# Altium footprint library EEG_PcbLib.PcbLib: 77 footprints (part 2 of 5)
Each footprint in its own frame and in the unit in brackets; x right, y up, seen from the top. Pads: shape width x height; smd on the part's side, far side on the other; paste and mask are expansions set on the pad; w line width, h text height; cw(c..) or ccw(c..) is an arc to the next point about the centre after c.
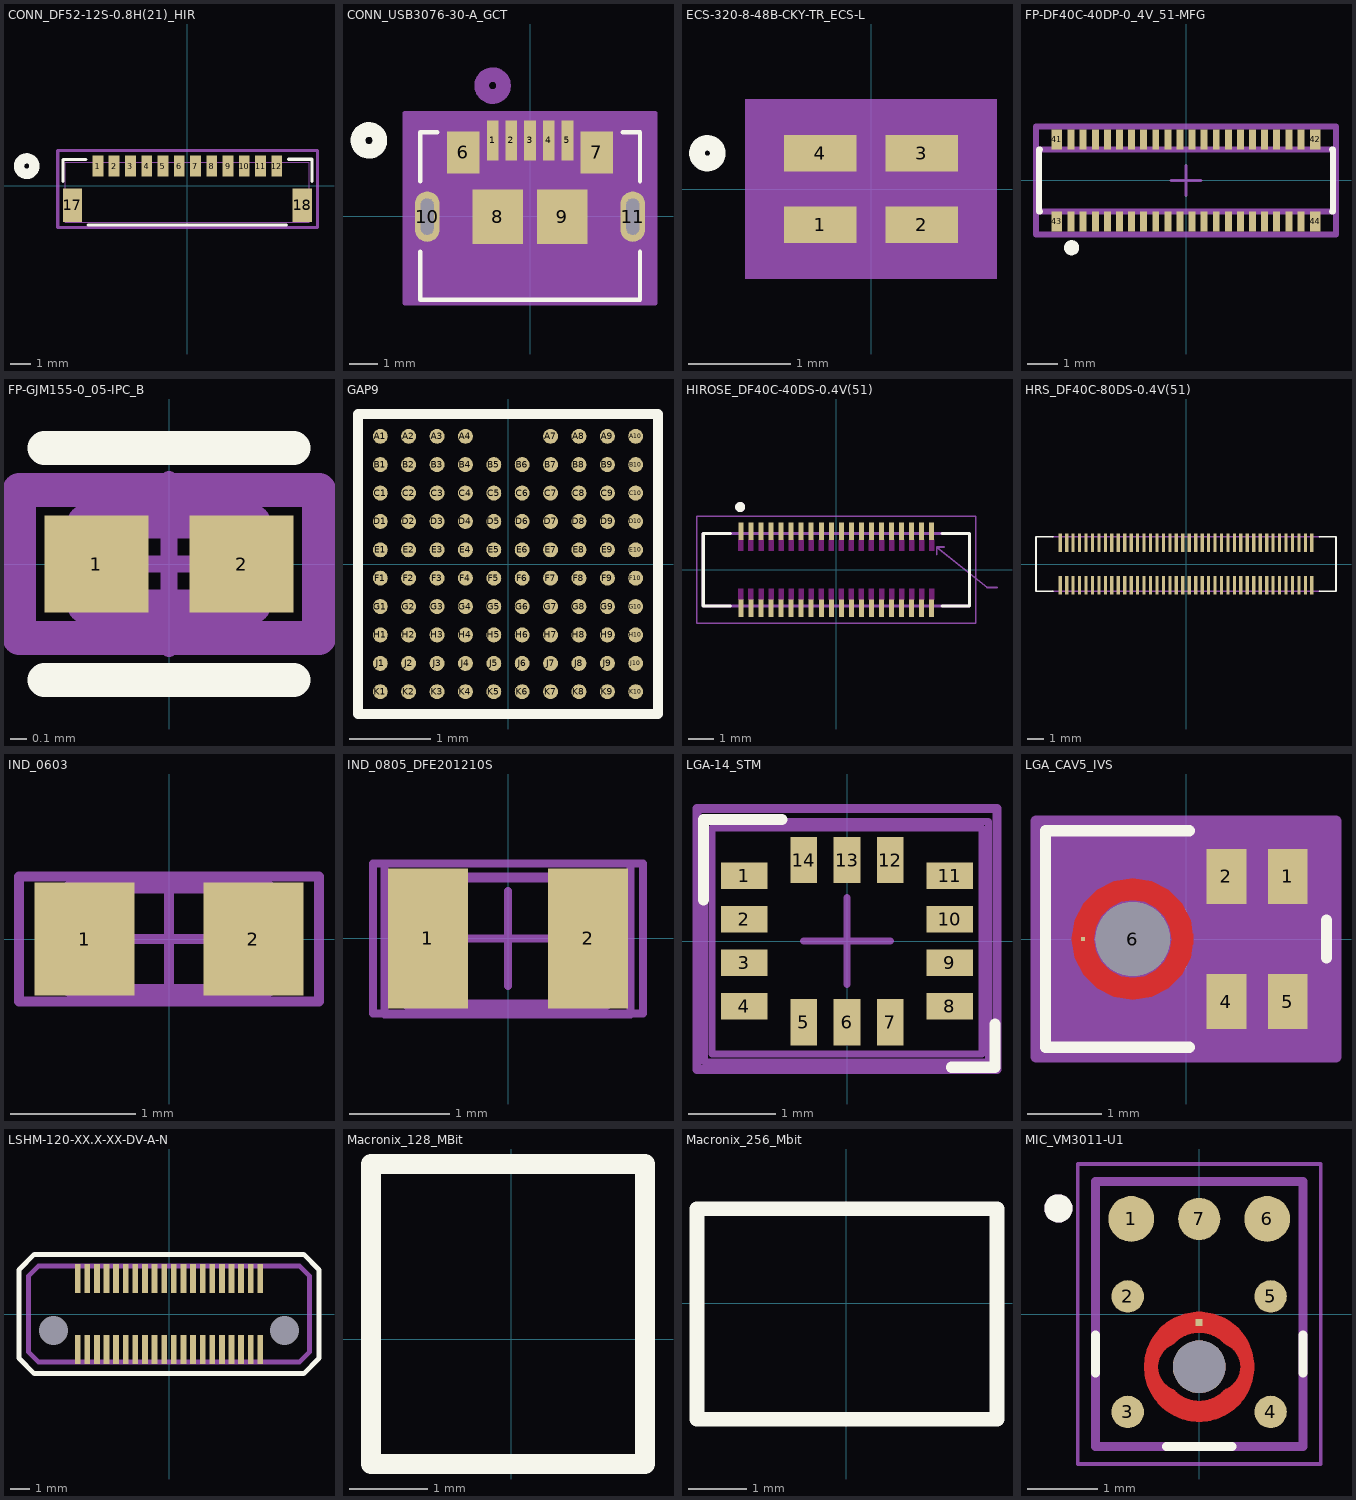
[diagram p1: the footprints below, top view; thin cyan lines are the x and y axes]

## CONN_DF52-12S-0.8H(21)_HIR [mm]
pads (14):
  rect 0.533x1.041 smd paste+0 mask+0: 1(-4.4,0.96) 2(-3.6,0.96) 3(-2.8,0.96) 4(-2,0.96) 5(-1.2,0.96) 6(-0.4,0.96) 7(0.4,0.96) 8(1.2,0.96) 9(2,0.96) 10(2.8,0.96) 11(3.6,0.96) 12(4.4,0.96)
  rect 0.94x1.651 smd: 17(-5.65,-0.96) 18(5.65,-0.96)
Top Overlay:
  circle w0.508: c-7.9,0.96 r0.381
  lines w0.152: -6.122,0.198 -6.122,1.287 -4.999,1.287 ; -4.885,-1.939 4.885,-1.939 ; 4.978,1.3 6.122,1.3 6.122,0.198
Bottom Overlay:
  circle w0.508: c-7.9,0.96 r0.381
Mechanical 13:
  lines w0.025: -5.995,-1.812 6,-1.812 6,1.16 -5.995,1.16 -5.995,-1.812
Mechanical 15:
  lines w0.152: -6.374,-2.066 -6.374,1.735 6.4,1.735 6.4,-2.066 -6.374,-2.066
3D body "DF52-12S-0.8H-21---3DModel-STEP-1.STEP": height 1.76, standoff 0.01, extent -5.9,-1.7 5.9,1.07

## CONN_USB3076-30-A_GCT [mm]
pads (11):
  rect 0.406x1.397 smd paste+0 mask+0: 1(-1.3,2.631) 2(-0.65,2.631) 3(0,2.631) 4(0.65,2.631) 5(1.3,2.631)
  rect 1.143x1.448 smd paste-0.724 mask-0.724: 6(-2.32,2.211) 7(2.32,2.211)
  rect 1.75x1.9 smd paste-0.95 mask-0.953: 8(-1.125,-0.019) 9(1.125,-0.019)
  oval 0.85x1.75 hole 0.45 slot 1.25 at 90 deg mask+0.102: 10(-3.575,-0.019) 11(3.575,-0.019)
Top Overlay:
  circle w0.508: c-5.601,2.631 r0.381
  lines w0.152: -3.823,-1.242 -3.823,-2.908 3.823,-2.908 3.823,-1.242 ; -3.823,1.204 -3.823,2.908 -3.224,2.908 ; 3.224,2.908 3.823,2.908 3.823,1.204
Bottom Overlay:
  circle w0.508: c-5.601,2.631 r0.381
Mechanical 13:
  circle w0.508: c-1.3,4.536 r0.381
  lines w0.025: -3.696,-2.781 3.696,-2.781 3.696,2.781 -3.696,2.781 -3.696,-2.781
Mechanical 15:
  region: 4.35,3.584 -4.35,3.584 -4.35,-3.035 4.35,-3.035
  lines w0.152: -4.35,-3.035 -4.35,3.584 4.35,3.584 4.35,-3.035 -4.35,-3.035
3D body "USB3076-30-A--3DModel-STEP-56544.STEP": height 2.67, standoff -0.99, extent -3.7,-2.775 3.7,2.775

## ECS-320-8-48B-CKY-TR_ECS-L [mm]
pads (4):
  rect 0.708x0.356 smd paste+0 mask+0: 1(-0.496,-0.35) 2(0.496,-0.35) 3(0.496,0.35) 4(-0.496,0.35)
Top Overlay:
  circle w0.152: c-1.601,0.35 r0.102
Mechanical 5:
  region: 1.231,-0.876 -1.231,-0.876 -1.231,0.876 1.231,0.876
Mechanical 13:
  circle w0: c-0.142,0.35 r0.076
  lines w0: -0.305,0.495 ccw(c0,0.495) 0.305,0.495
  lines w0.025: -0.597,-0.495 -0.597,0.495 0.597,0.495 0.597,-0.495 -0.597,-0.495
Mechanical 15:
  region: -0.699,-0.63 -0.952,-0.63 -0.952,0.63 -0.699,0.63 -0.699,0.597 0.699,0.597 0.699,0.63 0.952,0.63 0.952,-0.63 0.699,-0.63 0.699,-0.597 -0.699,-0.597
  lines w0.152: -0.952,-0.63 -0.699,-0.63 -0.699,-0.597 0.699,-0.597 0.699,-0.63 0.952,-0.63 0.952,0.63 0.699,0.63 0.699,0.597 -0.699,0.597 -0.699,0.63 -0.952,0.63 -0.952,-0.63
3D body "ECS-320-8-48B-CKY-TR_ECS.step": height 0.31, standoff 0, extent -0.65,-0.553 0.65,0.553

## FP-DF40C-40DP-0_4V_51-MFG [mm]
pads (44):
  rect 0.23x0.66 smd paste-1000 mask+0: 1(-3.8,-1.355) 2(-3.8,1.355) 3(-3.4,-1.355) 4(-3.4,1.355) 5(-3,-1.355) 6(-3,1.355) 7(-2.6,-1.355) 8(-2.6,1.355) 9(-2.2,-1.355) 10(-2.2,1.355) 11(-1.8,-1.355) 12(-1.8,1.355) 13(-1.4,-1.355) 14(-1.4,1.355) 15(-1,-1.355) 16(-1,1.355) 17(-0.6,-1.355) 18(-0.6,1.355) 19(-0.2,-1.355) 20(-0.2,1.355) 21(0.2,-1.355) 22(0.2,1.355) 23(0.6,-1.355) 24(0.6,1.355) 25(1,-1.355) 26(1,1.355) 27(1.4,-1.355) 28(1.4,1.355) 29(1.8,-1.355) 30(1.8,1.355) 31(2.2,-1.355) 32(2.2,1.355) 33(2.6,-1.355) 34(2.6,1.355) 35(3,-1.355) 36(3,1.355) 37(3.4,-1.355) 38(3.4,1.355) 39(3.8,-1.355) 40(3.8,1.355)
  rect 0.35x0.66 smd paste+0 mask+0: 41(-4.275,1.355) 42(4.275,1.355) 43(-4.275,-1.355) 44(4.275,-1.355)
Top Overlay:
  circle w0.25: c-3.785,-2.225 r0.125
  lines w0.2: -4.825,-1.025 -4.86,-1.025 -4.86,1.025 -4.825,1.025 ; 4.825,-1.025 4.86,-1.025 4.86,1.025 4.825,1.025
Top Paste:
  rectangle: 3.708,-1.685 3.892,-1.025
  rectangle: 3.308,-1.685 3.492,-1.025
  rectangle: 2.908,-1.685 3.092,-1.025
  rectangle: 2.508,-1.685 2.692,-1.025
  rectangle: 2.108,-1.685 2.292,-1.025
  rectangle: 1.708,-1.685 1.892,-1.025
  rectangle: 1.308,-1.685 1.492,-1.025
  rectangle: 0.908,-1.685 1.092,-1.025
  rectangle: 0.508,-1.685 0.692,-1.025
  rectangle: 0.108,-1.685 0.292,-1.025
  rectangle: -0.292,-1.685 -0.108,-1.025
  rectangle: -0.692,-1.685 -0.508,-1.025
  rectangle: -1.092,-1.685 -0.908,-1.025
  rectangle: -1.492,-1.685 -1.308,-1.025
  rectangle: -1.892,-1.685 -1.708,-1.025
  rectangle: -2.292,-1.685 -2.108,-1.025
  rectangle: -2.692,-1.685 -2.508,-1.025
  rectangle: -3.092,-1.685 -2.908,-1.025
  rectangle: -3.492,-1.685 -3.308,-1.025
  rectangle: -3.892,-1.685 -3.708,-1.025
  rectangle: 3.708,1.025 3.892,1.685
  rectangle: 3.308,1.025 3.492,1.685
  rectangle: 2.908,1.025 3.092,1.685
  rectangle: 2.508,1.025 2.692,1.685
  rectangle: 2.108,1.025 2.292,1.685
  rectangle: 1.708,1.025 1.892,1.685
  rectangle: 1.308,1.025 1.492,1.685
  rectangle: 0.908,1.025 1.092,1.685
  rectangle: 0.508,1.025 0.692,1.685
  rectangle: 0.108,1.025 0.292,1.685
  rectangle: -0.292,1.025 -0.108,1.685
  rectangle: -0.692,1.025 -0.508,1.685
  rectangle: -1.092,1.025 -0.908,1.685
  rectangle: -1.492,1.025 -1.308,1.685
  rectangle: -1.892,1.025 -1.708,1.685
  rectangle: -2.292,1.025 -2.108,1.685
  rectangle: -2.692,1.025 -2.508,1.685
  rectangle: -3.092,1.025 -2.908,1.685
  rectangle: -3.492,1.025 -3.308,1.685
  rectangle: -3.892,1.025 -3.708,1.685
Top 3D Body:
  lines w0.2: -4.86,-1.025 -4.86,1.025 4.86,1.025 4.86,-1.025 -4.86,-1.025
Top Assembly:
  lines w0.2: -4.96,-1.785 -4.96,1.785 4.96,1.785 4.96,-1.785 -4.96,-1.785
  text ".Designator" at 0,0.187 h1
Top Courtyard:
  lines w0.2: -4.96,-1.785 -4.96,1.785 4.96,1.785 4.96,-1.785 -4.96,-1.785
Top Component Center:
  lines w0.1: -0.5,0 0.5,0 ; 0,-0.5 0,0.5
3D body "Conn_Hirose_DF40C-40DP-0_4V_51_eec.STEP": height 0.25, standoff 0, extent -4.96,-1.785 4.96,1.785

## FP-GJM155-0_05-IPC_B [mm]
pads (2):
  rect 0.615x0.572 smd paste+0 mask+0: 1(-0.429,0) 2(0.429,0)
Top Overlay:
  lines w0.2: -0.736,-0.686 0.736,-0.686 ; -0.736,0.686 0.736,0.686
Top 3D Body:
  lines w0.2: -0.5,-0.25 0.5,-0.25 0.5,0.25 -0.5,0.25 -0.5,-0.25
Top Assembly:
  lines w0.2: -0.886,-0.436 0.886,-0.436 0.886,0.436 -0.886,0.436 -0.886,-0.436
  text ".Designator" at 0,0.187 h1
Top Courtyard:
  lines w0.2: -0.886,-0.436 0.886,-0.436 0.886,0.436 -0.886,0.436 -0.886,-0.436
Top Component Center:
  lines w0.1: -0.5,0 0.5,0 ; 0,-0.5 0,0.5
3D body "Cap_Murata_GJM1551C1H7R0DB01D_eec.STEP": height 0.25, standoff 0, extent -0.886,-0.436 0.886,0.436

## GAP9 [mm]
pads (98):
  round 0.185 smd paste-0.005 mask+0: A1(-1.575,1.575) A2(-1.225,1.575) A3(-0.875,1.575) A4(-0.525,1.575) A7(0.525,1.575) A8(0.875,1.575) A9(1.225,1.575) A10(1.575,1.575) B1(-1.575,1.225) B2(-1.225,1.225) B3(-0.875,1.225) B4(-0.525,1.225) B5(-0.175,1.225) B6(0.175,1.225) B7(0.525,1.225) B8(0.875,1.225) B9(1.225,1.225) B10(1.575,1.225) C1(-1.575,0.875) C2(-1.225,0.875) C3(-0.875,0.875) C4(-0.525,0.875) C5(-0.175,0.875) C6(0.175,0.875) C7(0.525,0.875) C8(0.875,0.875) C9(1.225,0.875) C10(1.575,0.875) D1(-1.575,0.525) D2(-1.225,0.525) D3(-0.875,0.525) D4(-0.525,0.525) D5(-0.175,0.525) D6(0.175,0.525) D7(0.525,0.525) D8(0.875,0.525) D9(1.225,0.525) D10(1.575,0.525) E1(-1.575,0.175) E2(-1.225,0.175) E3(-0.875,0.175) E4(-0.525,0.175) E5(-0.175,0.175) E6(0.175,0.175) E7(0.525,0.175) E8(0.875,0.175) E9(1.225,0.175) E10(1.575,0.175) F1(-1.575,-0.175) F2(-1.225,-0.175) F3(-0.875,-0.175) F4(-0.525,-0.175) F5(-0.175,-0.175) F6(0.175,-0.175) F7(0.525,-0.175) F8(0.875,-0.175) F9(1.225,-0.175) F10(1.575,-0.175) G1(-1.575,-0.525) G2(-1.225,-0.525) G3(-0.875,-0.525) G4(-0.525,-0.525) G5(-0.175,-0.525) G6(0.175,-0.525) G7(0.525,-0.525) G8(0.875,-0.525) G9(1.225,-0.525) G10(1.575,-0.525) H1(-1.575,-0.875) H2(-1.225,-0.875) H3(-0.875,-0.875) H4(-0.525,-0.875) H5(-0.175,-0.875) H6(0.175,-0.875) H7(0.525,-0.875) H8(0.875,-0.875) H9(1.225,-0.875) H10(1.575,-0.875) J1(-1.575,-1.225) J2(-1.225,-1.225) J3(-0.875,-1.225) J4(-0.525,-1.225) J5(-0.175,-1.225) J6(0.175,-1.225) J7(0.525,-1.225) J8(0.875,-1.225) J9(1.225,-1.225) J10(1.575,-1.225) K1(-1.575,-1.575) K2(-1.225,-1.575) K3(-0.875,-1.575) K4(-0.525,-1.575) K5(-0.175,-1.575) K6(0.175,-1.575) K7(0.525,-1.575) K8(0.875,-1.575) K9(1.225,-1.575) K10(1.575,-1.575)
Top Overlay:
  lines w0.127: -1.85,-1.85 -1.85,1.85 1.85,1.85 1.85,-1.85 -1.85,-1.85
3D body: height 0.52, standoff 0, extent -1.85,-1.85 1.85,1.85

## HIROSE_DF40C-40DS-0.4V(51) [mm]
pads (40):
  rect 0.2x0.7 smd paste-1: 1(-3.8,1.54) 2(-3.8,-1.54) 3(-3.4,1.54) 4(-3.4,-1.54) 5(-3,1.54) 6(-3,-1.54) 7(-2.6,1.54) 8(-2.6,-1.54) 9(-2.2,1.54) 10(-2.2,-1.54) 11(-1.8,1.54) 12(-1.8,-1.54) 13(-1.4,1.54) 14(-1.4,-1.54) 15(-1,1.54) 16(-1,-1.54) 17(-0.6,1.54) 18(-0.6,-1.54) 19(-0.2,1.54) 20(-0.2,-1.54) 21(0.2,1.54) 22(0.2,-1.54) 23(0.6,1.54) 24(0.6,-1.54) 25(1,1.54) 26(1,-1.54) 27(1.4,1.54) 28(1.4,-1.54) 29(1.8,1.54) 30(1.8,-1.54) 31(2.2,1.54) 32(2.2,-1.54) 33(2.6,1.54) 34(2.6,-1.54) 35(3,1.54) 36(3,-1.54) 37(3.4,1.54) 38(3.4,-1.54) 39(3.8,1.54) 40(3.8,-1.54)
Top Overlay:
  circle w0.2: c-3.83,2.5 r0.1
  lines w0.127: -4.22,-1.44 -5.3,-1.44 -5.3,1.44 -4.22,1.44 ; 4.22,-1.44 5.3,-1.44 5.3,1.44 4.22,1.44
Top Paste:
  drawing of 40 lines, arcs and shapes, not listed
Keep-Out Layer:
  drawing of 44 lines, arcs and shapes, not listed
Mechanical 13:
  circle w0.2: c-3.83,2.5 r0.1
  lines w0.076: 4,0.6 4,0.9 ; 4.3,0.9 4,0.9 ; 6.4,-0.7 6,-0.7 4,0.9
  lines w0.127: -5.3,-1.44 5.3,-1.44 5.3,1.44 -5.3,1.44 -5.3,-1.44
  text "other than same circuit" at 6.66,-1.953 h0.41
  text "No Pattern area" at 6.66,-1.14 h0.41
Mechanical 15:
  lines w0.05: -5.55,-2.14 -5.55,2.14 5.55,2.14 5.55,-2.14 -5.55,-2.14
3D body "df40c-40ds-0_4v_51_.stp": height 1.46, standoff 0.01, extent -5.415,-1.69 5.185,1.69

## HRS_DF40C-80DS-0.4V(51) [mm]
pads (80):
  rect 0.2x1.14 smd: 1(-7.8,-1.32) 2(-7.8,1.32) 3(-7.4,-1.32) 4(-7.4,1.32) 5(-7,-1.32) 6(-7,1.32) 7(-6.6,-1.32) 8(-6.6,1.32) 9(-6.2,-1.32) 10(-6.2,1.32) 11(-5.8,-1.32) 12(-5.8,1.32) 13(-5.4,-1.32) 14(-5.4,1.32) 15(-5,-1.32) 16(-5,1.32) 17(-4.6,-1.32) 18(-4.6,1.32) 19(-4.2,-1.32) 20(-4.2,1.32) 21(-3.8,-1.32) 22(-3.8,1.32) 23(-3.4,-1.32) 24(-3.4,1.32) 25(-3,-1.32) 26(-3,1.32) 27(-2.6,-1.32) 28(-2.6,1.32) 29(-2.2,-1.32) 30(-2.2,1.32) 31(-1.8,-1.32) 32(-1.8,1.32) 33(-1.4,-1.32) 34(-1.4,1.32) 35(-1,-1.32) 36(-1,1.32) 37(-0.6,-1.32) 38(-0.6,1.32) 39(-0.2,-1.32) 40(-0.2,1.32) 41(0.2,-1.32) 42(0.2,1.32) 43(0.6,-1.32) 44(0.6,1.32) 45(1,-1.32) 46(1,1.32) 47(1.4,-1.32) 48(1.4,1.32) 49(1.8,-1.32) 50(1.8,1.32) 51(2.2,-1.32) 52(2.2,1.32) 53(2.6,-1.32) 54(2.6,1.32) 55(3,-1.32) 56(3,1.32) 57(3.4,-1.32) 58(3.4,1.32) 59(3.8,-1.32) 60(3.8,1.32) 61(4.2,-1.32) 62(4.2,1.32) 63(4.6,-1.32) 64(4.6,1.32) 65(5,-1.32) 66(5,1.32) 67(5.4,-1.32) 68(5.4,1.32) 69(5.8,-1.32) 70(5.8,1.32) 71(6.2,-1.32) 72(6.2,1.32) 73(6.6,-1.32) 74(6.6,1.32) 75(7,-1.32) 76(7,1.32) 77(7.4,-1.32) 78(7.4,1.32) 79(7.8,-1.32) 80(7.8,1.32)
Top Overlay:
  lines w0.1: -8.25,-1.691 -9.301,-1.691 -9.301,1.691 -8.25,1.691 ; 8.25,1.691 9.299,1.691 9.299,-1.691 8.251,-1.691
Mechanical 13:
  lines w0.1: -8.25,-1.691 8.251,-1.691 ; -8.25,1.691 8.25,1.691 ; 8.251,-1.691 8.251,-1.691
3D body "DF40C-80DS-0.4V(51)--3DModel-STEP-56544.STEP": height 1.66, standoff 0.01, extent -9.3,-1.69 9.3,1.69

## IND_0603 [mm] "0603 Inductor"
height 0.89
pads (2):
  rect 0.8x0.9 smd: 1(-0.675,0) 2(0.675,0)
Top Assembly:
  lines w0.08: -1.2,-0.5 1.2,-0.5 1.2,0.5 -1.2,0.5 -1.2,-0.5
Top Component Outline:
  lines w0.1: -0.8,-0.41 0.8,-0.41 0.8,0.415 -0.8,0.415 -0.8,-0.41
Top Component Center:
  lines w0.08: -0.475,0 0.475,0 ; 0,-0.475 0,0.475
3D body "FER 0603.STEP": height 0.82, standoff 0, extent -0.8,-0.412 0.8,0.412

## IND_0805_DFE201210S [mm] "0805 Inductor"
height 0.89
pads (2):
  rect 0.8x1.4 smd: 1(-0.8,0) 2(0.8,0)
Top Assembly:
  lines w0.08: -1.35,-0.75 -1.35,0.75 1.35,0.75 1.35,-0.75 -1.35,-0.75
Top Courtyard:
  lines w0.08: -1.237,-0.763 -1.237,0.75 1.226,0.75 1.226,-0.763 -1.237,-0.763
Top Component Outline:
  lines w0.1: -1.016,-0.66 -1.016,0.61 0.991,0.61 0.991,-0.66 -1.016,-0.66
Top Component Center:
  lines w0.08: -0.475,0 0.475,0 ; 0,-0.475 0,0.475
3D body "FER 0805.STEP": height 1.02, standoff -0.26, extent -1,-0.639 1,0.635

## LGA-14_STM [mil] "LG1-14 package of STM comatible with various components"
pads (14):
  rect 21x12 smd: 1(-46.5,29.54) 2(-46.5,9.85) 3(-46.5,-9.85) 4(-46.5,-29.54) 8(46.5,-29.54) 9(46.5,-9.85) 10(46.5,9.85) 11(46.5,29.54)
  rect 12x21 smd: 5(-19.69,-36.74) 6(0,-36.74) 7(19.69,-36.74) 12(19.69,36.74) 13(0,36.74) 14(-19.69,36.74)
Top Overlay:
  lines w5: -64.96,18.7 -64.96,55.12 -29.53,55.12 ; 47.24,-57.09 66.93,-57.09 66.93,-37.4
Top Assembly:
  lines w3.94: -67.91,-58.07 67.91,-58.07 67.91,60.04 -67.91,60.04 -67.91,-58.07
Top Courtyard:
  lines w3.15: -64.48,-54.64 -64.48,54.14 63.98,54.14 63.98,-54.64 -64.48,-54.64
Top Component Outline:
  lines w3.15: -61.02,-51.18 -61.02,51.18 61.02,51.18 61.02,-51.18 -61.02,-51.18
Top Component Center:
  lines w3.15: -19.68,0 19.69,0 ; 0,-19.69 0,19.68
3D body "QFN_DHCXTR_STM.step": height 55.12, standoff 0, extent -60.98,-50.98 60.99,50.99

## LGA_CAV5_IVS [mil]
pads (6):
  rect 21x29 smd paste-14.5 mask-14.5: 1(53.6,32.97) 2(21.24,32.97) 4(21.24,-32.97) 5(53.6,-32.97)
  rect 2x2 smd paste-1 mask-1: 3(-54.31,0)
  round 39 / inner round 60 / far side round 39 hole 39 unplated paste-19.5 mask-19.5: 6(-28.06,0)
Top Layer:
  region: -7.63,1.79 3.82,2.79 3.94,0 2.38,-9.89 -2.17,-18.81 -9.25,-25.89 -18.17,-30.43 -28.06,-32 -37.94,-30.43 -46.86,-25.89 -53.94,-18.81 -58.49,-9.89 -60.06,0 -59.93,2.79 -48.48,1.79 -48.56,0 -47.55,-6.33 -44.64,-12.05 -40.1,-16.58 -34.39,-19.5 -28.06,-20.5 -21.72,-19.5 -16.01,-16.58 -11.47,-12.05 -8.56,-6.33 -7.56,0
  region: -7.63,-1.79 3.82,-2.79 3.94,0 2.38,9.89 -2.17,18.81 -9.25,25.89 -18.17,30.43 -28.06,32 -37.94,30.43 -46.86,25.89 -53.94,18.81 -58.49,9.89 -60.06,0 -59.93,-2.79 -48.48,-1.79 -48.56,0 -47.55,6.33 -44.64,12.05 -40.1,16.58 -34.39,19.5 -28.06,20.5 -21.72,19.5 -16.01,16.58 -11.47,12.05 -8.56,6.33 -7.56,0
Top Overlay:
  lines w6: 1.75,-57 -74,-57 -74,57 1.75,57 ; 74,-9.9 74,9.9
Top Paste:
  region: -7.63,1.79 3.82,2.79 3.94,0 2.38,-9.89 -2.17,-18.81 -9.25,-25.89 -18.17,-30.43 -28.06,-32 -37.94,-30.43 -46.86,-25.89 -53.94,-18.81 -58.49,-9.89 -60.06,0 -59.93,2.79 -48.48,1.79 -48.56,0 -47.55,-6.33 -44.64,-12.05 -40.1,-16.58 -34.39,-19.5 -28.06,-20.5 -21.72,-19.5 -16.01,-16.58 -11.47,-12.05 -8.56,-6.33 -7.56,0
  region: -7.63,-1.79 3.82,-2.79 3.94,0 2.38,9.89 -2.17,18.81 -9.25,25.89 -18.17,30.43 -28.06,32 -37.94,30.43 -46.86,25.89 -53.94,18.81 -58.49,9.89 -60.06,0 -59.93,-2.79 -48.48,-1.79 -48.56,0 -47.55,6.33 -44.64,12.05 -40.1,16.58 -34.39,19.5 -28.06,20.5 -21.72,19.5 -16.01,16.58 -11.47,12.05 -8.56,6.33 -7.56,0
Top Solder:
  region: -7.63,1.79 3.82,2.79 3.94,0 2.38,-9.89 -2.17,-18.81 -9.25,-25.89 -18.17,-30.43 -28.06,-32 -37.94,-30.43 -46.86,-25.89 -53.94,-18.81 -58.49,-9.89 -60.06,0 -59.93,2.79 -48.48,1.79 -48.56,0 -47.55,-6.33 -44.64,-12.05 -40.1,-16.58 -34.39,-19.5 -28.06,-20.5 -21.72,-19.5 -16.01,-16.58 -11.47,-12.05 -8.56,-6.33 -7.56,0
  region: -7.63,-1.79 3.82,-2.79 3.94,0 2.38,9.89 -2.17,18.81 -9.25,25.89 -18.17,30.43 -28.06,32 -37.94,30.43 -46.86,25.89 -53.94,18.81 -58.49,9.89 -60.06,0 -59.93,-2.79 -48.48,-1.79 -48.56,0 -47.55,6.33 -44.64,12.05 -40.1,16.58 -34.39,19.5 -28.06,20.5 -21.72,19.5 -16.01,16.58 -11.47,12.05 -8.56,6.33 -7.56,0
Mechanical 13:
  lines w1: -69,-52 -69,52 69,52 69,-52 -69,-52
Mechanical 15:
  region: 69,-52 -69,-52 -69,52 69,52
  region: 79,-62 -79,-62 -79,62 79,62
  lines w6: -79,-62 79,-62 79,62 -79,62 -79,-62
3D body "T5838.stp": height 38.23, standoff -0.39, extent -68.9,-52.17 68.9,52.17

## LSHM-120-XX.X-XX-DV-A-N [mm]
pads (42):
  rect 0.3x1.5 smd mask+0.05: 1(4.75,-1.85) 2(4.75,1.85) 3(4.25,-1.85) 4(4.25,1.85) 5(3.75,-1.85) 6(3.75,1.85) 7(3.25,-1.85) 8(3.25,1.85) 9(2.75,-1.85) 10(2.75,1.85) 11(2.25,-1.85) 12(2.25,1.85) 13(1.75,-1.85) 14(1.75,1.85) 15(1.25,-1.85) 16(1.25,1.85) 17(0.75,-1.85) 18(0.75,1.85) 19(0.25,-1.85) 20(0.25,1.85) 21(-0.25,-1.85) 22(-0.25,1.85) 23(-0.75,-1.85) 24(-0.75,1.85) 25(-1.25,-1.85) 26(-1.25,1.85) 27(-1.75,-1.85) 28(-1.75,1.85) 29(-2.25,-1.85) 30(-2.25,1.85) 31(-2.75,-1.85) 32(-2.75,1.85) 33(-3.25,-1.85) 34(-3.25,1.85) 35(-3.75,-1.85) 36(-3.75,1.85) 37(-4.25,-1.85) 38(-4.25,1.85) 39(-4.75,-1.85) 40(-4.75,1.85)
  round 0 hole 1.5 unplated: 41(6,-0.85) 42(-6,-0.85)
Top Overlay:
  lines w0.25: -7.8,-2.3 -7.8,2.3 -7,3.1 7,3.1 7.8,2.3 7.8,-2.3 7,-3.1 -7,-3.1 -7.8,-2.3
Mechanical 1:
  lines w0.25: -7.3,-1.99 -7.3,1.99 -6.8,2.49 6.8,2.49 7.3,1.99 7.3,-1.99 6.8,-2.49 -6.8,-2.49 -7.3,-1.99
  text "J1" at -0.439,-0.45 h0.75
3D body "LSHM-120-03.0-L-DV-A-N-K-TR.stp": height 4.61, standoff -0.84, extent -7.4,-2.49 7.4,2.49

## Macronix_128_MBit [mm]
Top Overlay:
  lines w0.254: -1.8,-1.6 1.72,-1.6 1.72,2.25 -1.8,2.25 -1.8,-1.6

## Macronix_256_Mbit [mm]
Top Overlay:
  lines w0.254: -2.58,-2 2.6,-2 2.6,1.63 -2.58,1.63 -2.58,-2

## MIC_VM3011-U1 [mm]
pads (9):
  round 0.65 smd: 1(-0.965,1.35) 6(0.965,1.35)
  round 0.46 smd: 2(-1.015,0.25) 3(-1.015,-1.39) 4(1.015,-1.39) 5(1.015,0.25)
  round 0.6 smd: 7(0,1.35)
  rect 0.1x0.1 smd paste-1 mask+0: 8(0,-0.12)
  round 0.75 hole 0.75 unplated mask+0.51: ""(0,-0.75)
Top Layer:
  region: 120 vertices and 1 holes, not listed, extent -0.78,-1.53 0.78,0.03
Top Overlay:
  circle w0.2: c-2,1.5 r0.1
  lines w0.127: -1.475,-0.84 -1.475,-0.3 ; -0.465,-1.88 0.465,-1.88 ; 1.475,-0.84 1.475,-0.3
Top Paste:
  drawing of 4 lines, arcs and shapes, not listed
Mechanical 13:
  circle w0.2: c-2,1.5 r0.1
  lines w0.127: -1.475,-1.88 1.475,-1.88 1.475,1.88 -1.475,1.88 -1.475,-1.88
Mechanical 15:
  lines w0.05: -1.725,-2.13 1.725,-2.13 1.725,2.13 -1.725,2.13 -1.725,-2.13